# EAGLE library part AP62250WU-7 (library AP62250WU-7)
DCDC CONV HV BUCK TSOT26 T&R 3K Source: Datasheet <https://www.diodes.com/assets/Datasheets/AP62250.pdf>
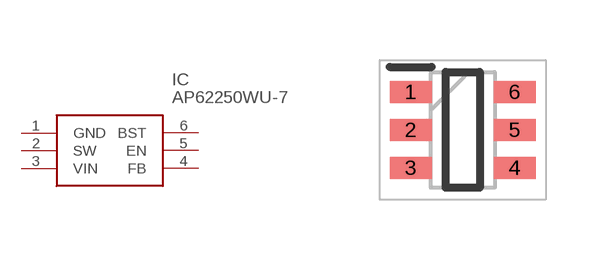
[diagram p0: symbol with the pads of SOT95P280X100-6N; footprint SOT95P280X100-6N]

Designator prefix IC

## AP62250WU-7 (Description: DCDC CONV HV BUCK TSOT26 T&R 3K; Height: 1mm; Manufacturer_Name: Diodes Incorporated; Manufacturer_Part_Number: AP62250WU-7; Mouser_Part_Number: 621-AP62250WU-7; Mouser_Price-Stock: https://www.mouser.co.uk/ProductDetail/Diodes-Incorporated/AP62250WU-7?qs=7MVldsJ5Uax1PUc8sdeimQ%3D%3D)  [SOT95P280X100-6N]
1  GND
2  SW
3  VIN
4  FB
5  EN
6  BST

## Footprint SOT95P280X100-6N (pad centres in mm)
AP62250WU-7
smd 1.05 x 0.55: 1 -1.3,0.95; 2 -1.3,0; 3 -1.3,-0.95; 4 1.3,-0.95; 5 1.3,0; 6 1.3,0.95